# Altium footprint library ESC_Tester_PCBLIB.PcbLib: 20 footprints (part 1 of 2)
Each footprint in its own frame and in the unit in brackets; x right, y up, seen from the top. Pads: shape width x height; smd on the part's side, far side on the other; paste and mask are expansions set on the pad; w line width, h text height; cw(c..) or ccw(c..) is an arc to the next point about the centre after c.
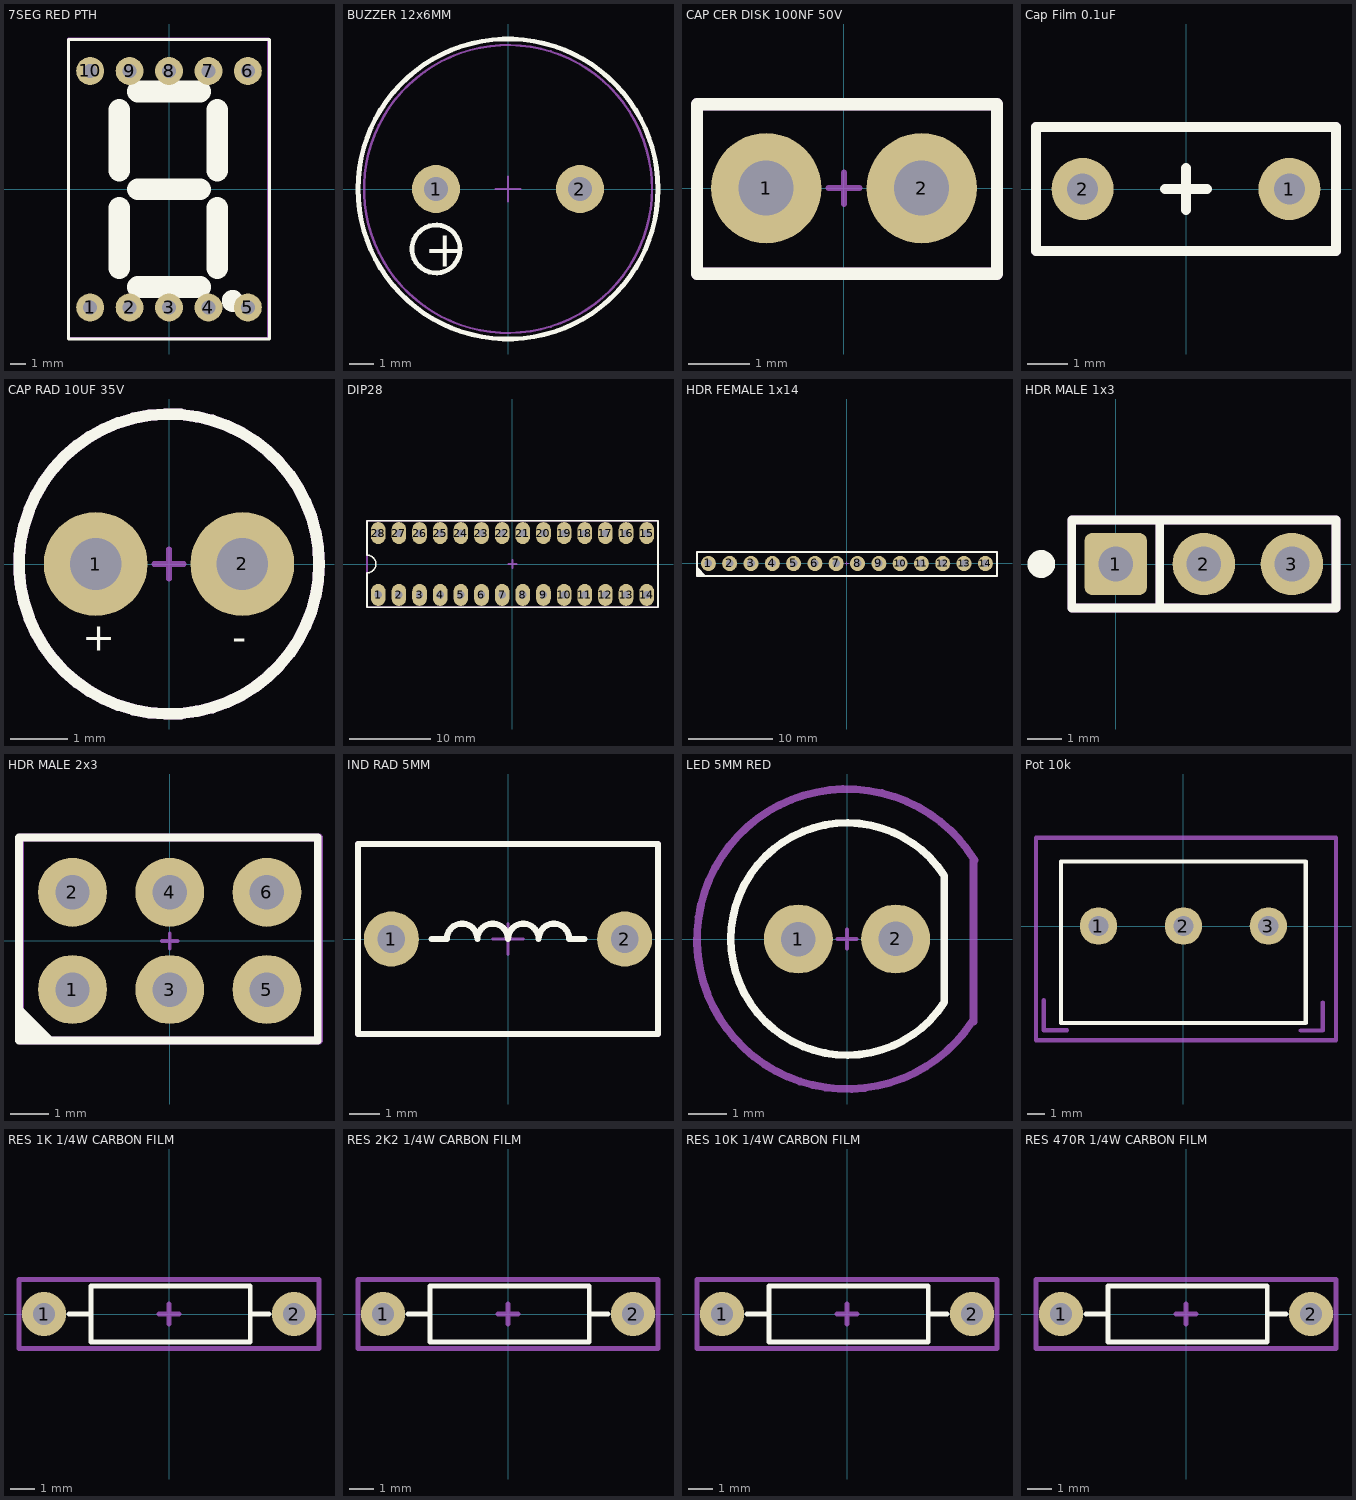
[diagram p0: the footprints below, top view; thin cyan lines are the x and y axes]

## 7SEG RED PTH [mm]
pads (10):
  round 1.8 hole 0.9: 1(-5.08,-7.62) 2(-2.54,-7.62) 3(0,-7.62) 4(2.54,-7.62) 5(5.08,-7.62) 6(5.08,7.62) 7(2.54,7.62) 8(0,7.62) 9(-2.54,7.62) 10(-5.08,7.62)
Top Overlay:
  circle w1.2: c4.1,-7.2 r0.1
  lines w0.2: -6.477,-9.652 -6.477,9.652 6.477,9.652 6.477,-9.652 -6.477,-9.652
  lines w1.4: -3.2,-5.1 -3.2,-1.2 ; -3.2,1.2 -3.2,5.1 ; -2,-6.3 2,-6.3 ; -2,0 2,0 ; -2,6.3 2,6.3 ; 3.1,-5.1 3.1,-1.2 ; 3.1,1.2 3.1,5.1
Mechanical 15:
  lines w0.2: -0.5,0 0.5,0 ; 0,-0.5 0,0.5 ; -6.48,-9.62 -6.48,9.68 6.42,9.68 6.42,-9.62 -6.48,-9.62
Mechanical 29:
  text ".Designator" at -6.3,10.2 h0.5
  text "1" at -4.1,-9 h0.5
3D body "7SEG RED PTH.STEP": height 8.2, standoff -3.8, extent -6.38,-9.52 6.32,9.53

## BUZZER 12x6MM [mm] "BUZZER 12x6MM"
height 6.33
pads (2):
  round 2 hole 1: 1(-3,0) 2(3,0)
Top Overlay:
  circle w0.2: c-3,-2.5 r1
  circle w0.2: c0,0 r6.25
  text "+" at -3.5,-3.25 h1.5
Mechanical 13:
  circle w0.1: c0,0 r6
Mechanical 15:
  circle w0.1: c0,0 r6.25
  lines w0.1: -0.508,0 0.508,0 ; 0,-0.508 0,0.508
Mechanical 29:
  text ".Designator" at 0,0 h4
3D body "Buzzer.STEP": height 6.33, standoff -2, extent -6,-6 6,6

## CAP CER DISK 100NF 50V [mm] "Connector; Header; 5 Position"
pads (2):
  round 1.8 hole 0.9: 1(-1.27,0) 2(1.27,0)
Top Overlay:
  lines w0.2: -2.4,-1.397 2.5,-1.397 2.5,1.37 -2.4,1.37 -2.4,-1.397
Mechanical 15:
  lines w0.1: -0.254,0 0.254,0 ; 0,-0.254 0,0.254
  lines w0.2: -2.4,-1.397 -2.4,1.37 2.5,1.37 2.5,-1.397 -2.4,-1.397
Mechanical 29:
  text "1" at -0.4,-1.1 h0.5
  text ".Designator" at -2.2,1.8 h0.5
3D body "CAP_Ceramic.STEP": height 6.1, standoff -3.93, extent -2.28,-1.25 2.42,1.25

## Cap Film 0.1uF [mil] "Cap Film 0.1uF"
height 255.91
pads (2):
  round 60 hole 30: 1(100,0) 2(-100,0)
Top Overlay:
  lines w10: 0,-20 0,20 ; -145,-60 -145,60 145,60 145,-60 -145,-60 ; -20,0 20,0 -20,0
Mechanical 15:
  lines w10: -145,-60 -145,60 145,60 145,-60 -145,-60
3D body: height 10, standoff 0, extent -40,115 -40,115
3D body: height 10, standoff 0, extent -125,-55 -125,-55
3D body: height 10, standoff 0, extent -145,-25 -145,-25
3D body: height 10, standoff 0, extent -75,-15 -75,-15
3D body: height 10, standoff 0, extent 0,0 0,0
3D body "User Library-MKT_B32529.step": height 236.22, standoff -255.91, extent -143.7,-60 143.7,58.11
3D body: height 10, standoff 0, extent -70,65 -70,65
3D body: height 10, standoff 0, extent 20,0 20,0

## CAP RAD 10UF 35V [mm]
pads (2):
  round 1.8 hole 0.9: 1(-1.27,0) 2(1.27,0)
Top Overlay:
  circle w0.2: c0,0 r2.6
  text "+" at -1.5,-1.5 h0.5
  text "-" at 1.1,-1.5 h0.5
Mechanical 15:
  circle w0.2: c0,0 r2.6
  lines w0.1: -0.254,0 0.254,0 ; 0,-0.254 0,0.254
Mechanical 29:
  text ".Designator" at -2.4,3 h0.5
  text "+" at -1.5,-1.5 h0.5
  text "-" at 1.1,-1.5 h0.5
3D body "CAP ELE PTH.STEP": height 12.2, standoff -1.7, extent -2.5,-2.5 2.5,2.5

## DIP28 [mm]
pads (28):
  oval 1.8x2.7 hole 0.9: 1(-16.51,-3.8) 2(-13.97,-3.8) 3(-11.43,-3.8) 4(-8.89,-3.8) 5(-6.35,-3.8) 6(-3.81,-3.8) 7(-1.27,-3.8) 8(1.27,-3.8) 9(3.81,-3.8) 10(6.35,-3.8) 11(8.89,-3.8) 12(11.43,-3.8) 13(13.97,-3.8) 14(16.51,-3.8) 15(16.51,3.8) 16(13.97,3.8) 17(11.43,3.8) 18(8.89,3.8) 19(6.35,3.8) 20(3.81,3.8) 21(1.27,3.8) 22(-1.27,3.8) 23(-3.81,3.8) 24(-6.35,3.8) 25(-8.89,3.8) 26(-11.43,3.8) 27(-13.97,3.8) 28(-16.51,3.8)
Top Overlay:
  lines w0.2: -17.9,-5.3 17.9,-5.3 17.9,5.3 -17.9,5.3 -17.9,1.1 cw(c-17.9,0) -17.9,-1.1 -17.9,-5.3
Mechanical 15:
  lines w0.2: -0.5,0 0.5,0 ; 0,-0.5 0,0.5 ; -17.9,-5.3 -17.9,5.3 17.9,5.3 17.9,-5.3 -17.9,-5.3
Mechanical 29:
  text ".Designator" at -17.7,5.8 h0.5
  text "1" at -16.6,-2.1 h0.5
3D body "DIP28.STEP": height 8, standoff 0.7, extent -17.61,-3.935 17.59,3.935
3D body "SOCKET DIP28.STEP": height 4.19, standoff -3.09, extent -17.79,-5.1 17.77,5.06

## HDR FEMALE 1x14 [mm] "Connector; Header; 14 Position"
pads (14):
  round 1.8 hole 0.9: 1(-16.51,0) 2(-13.97,0) 3(-11.43,0) 4(-8.89,0) 5(-6.35,0) 6(-3.81,0) 7(-1.27,0) 8(1.27,0) 9(3.81,0) 10(6.35,0) 11(8.89,0) 12(11.43,0) 13(13.97,0) 14(16.51,0)
Top Overlay:
  region: -17.87,-1.5 -17.272,-1.5 -16.788,-1.5 -17.87,-0.418
  lines w0.2: -17.87,-1.5 -17.87,1.37 17.9,1.37 17.9,-1.5 -17.87,-1.5
Mechanical 15:
  lines w0.1: -0.2,0 0.2,0 ; 0,-0.2 0,0.2
  lines w0.2: -17.87,-1.5 17.9,-1.5 17.9,1.37 -17.87,1.37 -17.87,-1.5
Mechanical 29:
  text ".Designator" at -17.67,1.87 h0.5
  text "1" at -15.494,-1.143 h0.5
3D body "HDR FEMALE 1x14.STEP": height 8.5, standoff -2.09, extent -17.8,-1.3 17.76,1.24

## HDR MALE 1x3 [mm] "PinHeader 1x3 TH Pitch 2.54mm"
height 9.5
pads (3):
  rrect25% 1.8x1.8 hole 1: 1(0,0)
  round 1.8 hole 1: 2(2.54,0) 3(5.08,0)
Top Overlay:
  circle w0.5: c-2.15,0 r0.15
  lines w0.254: 1.27,-1.27 1.27,1.27 -1.27,1.27 ; -1.27,1.27 -1.27,-1.27 6.35,-1.27 6.35,1.27 -1.27,1.27
Mechanical 3:
  lines w0.254: 1.27,-1.27 1.27,1.27 -1.27,1.27 ; -1.27,1.27 -1.27,-1.27 6.35,-1.27 6.35,1.27 -1.27,1.27
3D body "Pin Header 1x3 TH Pitch 2.54mm.stp": height 9.5, standoff -3.2, extent -1.27,-1.27 6.35,1.27

## HDR MALE 2x3 [mm] "Connector; Header; 6 Position"
pads (6):
  round 1.8 hole 0.9: 1(-2.54,-1.27) 2(-2.54,1.27) 3(0,-1.27) 4(0,1.27) 5(2.54,-1.27) 6(2.54,1.27)
Top Overlay:
  region: -3.937,-2.6 -3.048,-2.6 -3.048,-2.54 -3.937,-1.651
  lines w0.2: -3.937,-2.6 3.863,-2.6 3.863,2.7 -3.937,2.7 -3.937,-2.6
Mechanical 15:
  lines w0.1: -0.2,0 0.2,0 ; 0,-0.2 0,0.2
  lines w0.2: -3.9,-2.6 3.9,-2.6 3.9,2.7 -3.9,2.7 -3.9,-2.6
Mechanical 29:
  text ".Designator" at -3.7,3.1 h0.5
  text "1" at -1.524,-2.286 h0.5
3D body "header_1pin.step": height 5.94, standoff -2.94, extent -3.81,0 -1.27,2.54
3D body "header_1pin.step": height 5.94, standoff -2.94, extent -1.27,0 1.27,2.54
3D body "header_1pin.step": height 5.94, standoff -2.94, extent 1.27,0 3.81,2.54
3D body "header_1pin.step": height 5.94, standoff -2.94, extent -3.81,-2.54 -1.27,0
3D body "header_1pin.step": height 5.94, standoff -2.94, extent -1.27,-2.54 1.27,0
3D body "header_1pin.step": height 5.94, standoff -2.94, extent 1.27,-2.54 3.81,0

## IND RAD 5MM [mm]
pads (2):
  round 1.8 hole 0.9: 1(-3.81,0) 2(3.81,0)
Top Overlay:
  lines w0.2: -2.5,0 -2,0 cw(c-1.5,0) -1,0 cw(c-0.5,0) 0,0 cw(c0.5,0) 1,0 cw(c1.5,0) 2,0 2.5,0 ; -4.9,-3.1 -4.9,3.1 4.9,3.1 4.9,-3.1 -4.9,-3.1
Mechanical 15:
  lines w0.1: -0.5,0 0.5,0 ; 0,-0.5 0,0.5
  lines w0.2: -4.9,-3.1 4.9,-3.1 4.9,3.1 -4.9,3.1 -4.9,-3.1
Mechanical 29:
  text ".Designator" at -4.7,3.5 h0.5
  text "1" at -2.7,-1.4 h0.5
3D body "IND RAD 10UH.STEP": height 7, standoff -2, extent -4.76,-3 4.74,3

## LED 5MM RED [mm]
pads (2):
  round 1.8 hole 0.9: 1(-1.27,0) 2(1.27,0)
Top Overlay:
  lines w0.2: 2.54,-1.651 cw(c0,0) 2.54,1.651 2.54,-1.651
Mechanical 15:
  lines w0.1: -0.254,0 0.254,0 ; 0,-0.254 0,0.254
  lines w0.2: 3.275,-2.141 cw(c0,0) 3.333,2.051 ; 3.302,-2.159 3.302,2.032
Mechanical 29:
  text ".Designator" at -2.159,2.794 h0.5
  text "A" at -1.143,-1.524 h0.5
  text "K" at 0.635,-1.524 h0.5
3D body "ALSRobot-LED Red 5mm.STEP": height 9.31, standoff -5.49, extent -2.98,-3.01 2.44,3.01

## Pot 10k [mm]
pads (3):
  round 2.2 hole 1.2: 1(-5,0) 2(0,0) 3(5,0)
Top Overlay:
  lines w0.254: -7.2,-5.7 -7.2,3.8 7.2,3.8 7.2,-5.7 -7.2,-5.7
Mechanical 13:
  lines w0.254: -8.225,-4.375 -8.225,-6.125 -6.85,-6.125 ; 6.9,-6.15 8.2,-6.15 8.2,-4.5
Mechanical 15:
  lines w0.254: -8.675,-6.725 -8.675,5.2 8.975,5.2 8.975,-6.725 8.925,-6.725 -8.675,-6.725
3D body "Potentiometer10K.STEP": height 21.17, standoff -3.68, extent -8.145,-5.55 8.195,23.49

## RES 1K 1/4W CARBON FILM [mm]
pads (2):
  round 1.8 hole 0.9: 1(-5.08,0) 2(5.08,0)
Top Overlay:
  lines w0.2: -4.064,0 -3.175,0 ; 3.302,0 4.064,0 ; -3.175,-1.143 3.302,-1.143 3.302,1.143 -3.175,1.143 -3.175,-1.143
Mechanical 15:
  lines w0.2: -0.4,0 0.4,0 ; 0,-0.4 0,0.4 ; -6.096,-1.4 -6.096,1.4 6.096,1.4 6.096,-1.4 -6.096,-1.4
Mechanical 29:
  text ".Designator" at -5.9,1.8 h0.5
  text "1" at -3.937,-1.016 h0.5
3D body "RES 1K .25W CARBON FILM.STEP": height 3.27, standoff -2.02, extent -5.473,-1.27 5.474,1.27

## RES 2K2 1/4W CARBON FILM [mm]
pads (2):
  round 1.8 hole 0.9: 1(-5.08,0) 2(5.08,0)
Top Overlay:
  lines w0.2: -4.064,0 -3.175,0 ; 3.302,0 4.064,0 ; -3.175,-1.143 3.302,-1.143 3.302,1.143 -3.175,1.143 -3.175,-1.143
Mechanical 15:
  lines w0.2: -0.4,0 0.4,0 ; 0,-0.4 0,0.4 ; -6.096,-1.4 -6.096,1.4 6.096,1.4 6.096,-1.4 -6.096,-1.4
Mechanical 29:
  text ".Designator" at -5.9,1.8 h0.5
  text "1" at -3.937,-1.016 h0.5
3D body "RES 2K2 .25W CARBON FILM.STEP": height 3.27, standoff -2.02, extent -5.473,-1.27 5.474,1.27

## RES 10K 1/4W CARBON FILM [mm]
pads (2):
  round 1.8 hole 0.9: 1(-5.08,0) 2(5.08,0)
Top Overlay:
  lines w0.2: -4.064,0 -3.175,0 ; 3.302,0 4.064,0 ; -3.175,-1.143 -3.175,1.143 3.302,1.143 3.302,-1.143 -3.175,-1.143
Mechanical 15:
  lines w0.2: -0.4,0 0.4,0 ; 0,-0.4 0,0.4 ; -6.096,-1.4 6.096,-1.4 6.096,1.4 -6.096,1.4 -6.096,-1.4
Mechanical 29:
  text "1" at -3.937,-1.016 h0.5
  text ".Designator" at -5.9,1.8 h0.5
3D body "RES 10K .25W CARBON FILM.STEP": height 3.27, standoff -1.27, extent -5.473,-1.27 5.474,1.27

## RES 470R 1/4W CARBON FILM [mm]
pads (2):
  round 1.8 hole 0.9: 1(-5.08,0) 2(5.08,0)
Top Overlay:
  lines w0.2: -4.064,0 -3.175,0 ; 3.302,0 4.064,0 ; -3.175,-1.143 3.302,-1.143 3.302,1.143 -3.175,1.143 -3.175,-1.143
Mechanical 15:
  lines w0.2: -0.4,0 0.4,0 ; 0,-0.4 0,0.4 ; -6.096,-1.4 -6.096,1.4 6.096,1.4 6.096,-1.4 -6.096,-1.4
Mechanical 29:
  text ".Designator" at -5.9,1.8 h0.5
  text "1" at -3.937,-1.016 h0.5
3D body "RES 470R .25W CARBON FILM.STEP": height 3.27, standoff -1.27, extent -5.473,-1.27 5.474,1.27